# Altium schematic symbol library Optical.SchLib: 16 symbols
Pins are listed as number, name and electrical type; pins without a type are passive.

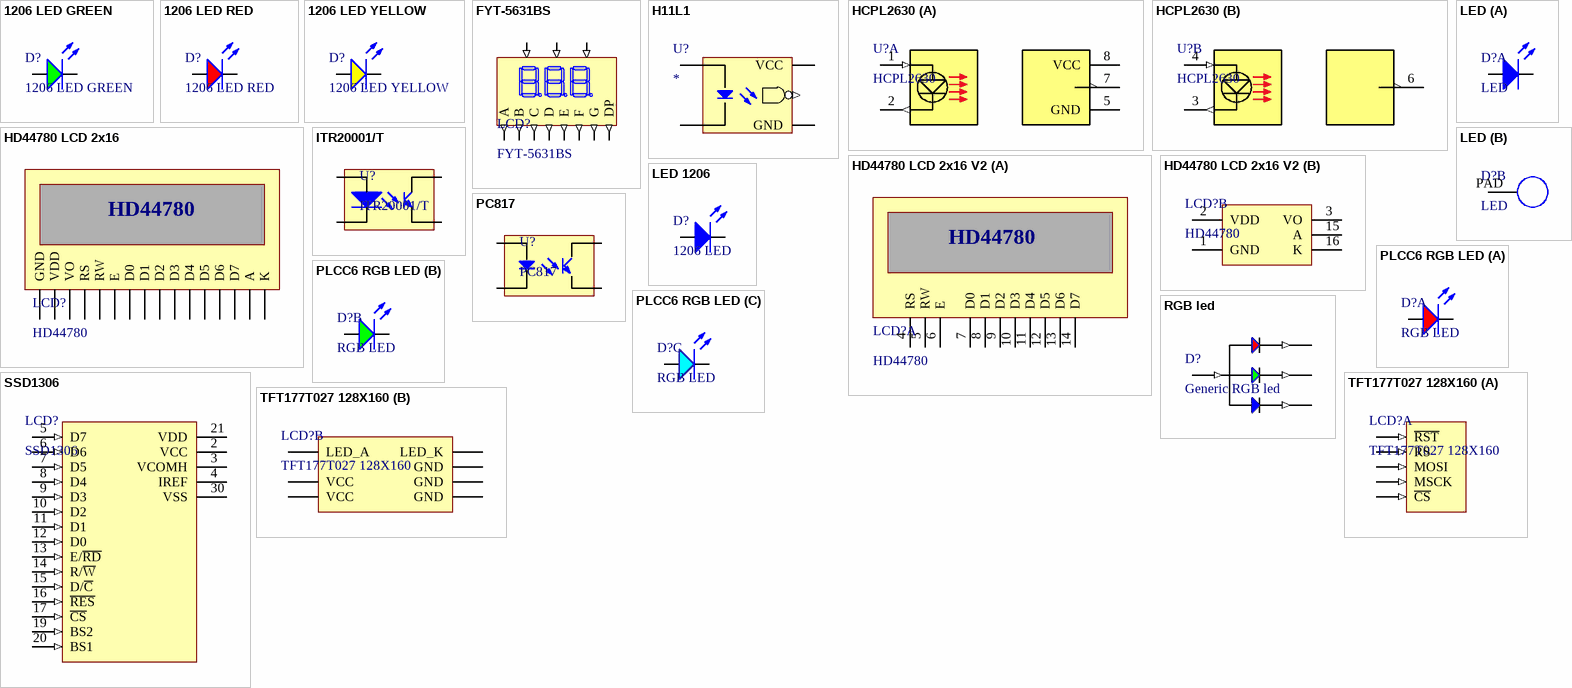
[diagram p0: symbols 1206 LED GREEN to TFT177T027 128X160]

## 1206 LED GREEN
designator D?
footprint 1206 LED GREEN (Chip Diode, 2-Leads, Body 3,20x1,60mm, IPC Medium Density)
pins: A, K

## 1206 LED RED
designator D?
footprint 1206 LED RED (Chip Diode, 2-Leads, Body 3,20x1,60mm, IPC Medium Density)
pins: A, K

## 1206 LED YELLOW
designator D?
footprint 1206 LED YELLOW (Chip Diode, 2-Leads, Body 3,20x1,60mm, IPC Medium Density)
pins: A, K

## FYT-5631BS
designator LCD?
Commone Anode 3x7 LCD; I forward: 30mA
footprint LED LCD FYT-5631BS (38x19 3 digit Common Anode LCD)
pins: 1 E (out), 2 D (out), 3 DP (out), 4 C (out), 5 G (out), 7 B (out), 8 DIG3 (in), 9 DIG2 (in), 10 F (out), 11 A (out), 12 DIG1 (in)

## H11L1
designator U?
If max: 30mA; Vf (10mA): 1.2V; If ON/OFF: 1mA
footprint DIP06
pins: 1 A, 2 C, 4 Vo (out), 5 GND (power), 6 VCC (power)

## HCPL2630
designator U?
Dual optocouple high speed
footprint DIP08
footprint DIP08 SMD
part A pins: 1 A1 (in), 2 C1 (out), 5 GND (power) "Ground pin", 7 OC1 (oc), 8 VCC (power) "5-12V Power input"
part B pins: 3 C2 (out), 4 A2 (in), 6 OC1 (oc)

## HD44780 LCD 2x16
designator LCD?, comment HD44780
HD44780 LCD 2X16
footprint LCD 2x16 (HD44780)
pins: 1 GND, 2 VDD, 3 VO, 4 RS, 5 RW, 6 E, 7 D0, 8 D1, 9 D2, 10 D3, 11 D4, 12 D5, 13 D6, 14 D7, 15 A, 16 K

## HD44780 LCD 2x16 V2
designator LCD?, comment HD44780
HD44780 LCD 2X16
footprint LCD 2x16 (HD44780)
part A pins: 4 RS, 5 RW, 6 E, 7 D0, 8 D1, 9 D2, 10 D3, 11 D4, 12 D5, 13 D6, 14 D7
part B pins: 1 GND, 2 VDD, 3 VO, 15 A, 16 K

## ITR20001/T
designator U?
Opto Interrupter
footprint DIP4 Opto Interrupter (Opto Interrupter)
pins: A, C, CL, EM

## LED
designator D?
footprint LED 1W SMD
part A pins: A, K
part B pins: PAD

## LED 1206
designator D?, comment 1206 LED
footprint 1206 LED (Chip Diode, 2-Leads, Body 3,20x1,60mm, IPC Medium Density)
footprint LED 3mm DIP
footprint LED 3mm DIP 2
pins: A, K

## PC817
designator U?
High Density Mounting Type  Photocoupler; If: 20mA; Vr: 4V
footprint PC817
pins: 1 A, 2 C, 3 EM, 4 CL

## PLCC6 RGB LED
designator D?, comment RGB LED
PLCC6 RGB LED; Red Brightness: 600 lm; Green Brightness: 800 lm; Blue Brightness: 350 lm; Power Dissipation: 100 mW; Continuous Forward Current: 30 mA; Peak Forward Current: 100 mA; Vf RED: 2.1 V; Vf GREEN: 3.3 V; Viewing  Angle: 140 deg; Vf BLUE: 3.3 V
footprint PLCC6
part A pins: 3, 4
part B pins: 1, 2
part C pins: 5, 6

## RGB led
designator D?, comment Generic RGB led
footprint RGB throu hole 90 deg
pins: BC (out), CA (in), GC (out), RC (out)

## SSD1306
designator LCD?
SSD1306TR1
footprint SSD1306 (SSD1306TR1)
pins: 2 VCC (power), 3 VCOMH, 4 IREF, 5 D7 (in), 6 D6 (in), 7 D5 (in), 8 D4 (in), 9 D3 (in), 10 D2 (in), 11 D1 (in), 12 D0 (in), 13 E/~{RD} (in), 14 R/~{W} (in), 15 D/~{C} (in), 16 ~{RES} (in), 17 ~{CS} (in), 19 BS2 (in), 20 BS1 (in), 21 VDD (power), 30 VSS (power)

## TFT177T027 128X160
designator LCD?
TFT177T027 128X160 TFT SPI LCD
footprint TFT177T027 (TFT177T027 128X160 TFT SPI LCD TFT)
part A pins: 6 ~{RST} (in), 7 RS (in), 8 MOSI (in), 9 MSCK (in), 12 ~{CS} (in)
part B pins: 2 GND, 3 LED_K, 4 LED_A, 5 GND, 10 VCC, 11 VCC, 13 GND